# Altium footprint library TF_115.PcbLib: 1 footprints
Each footprint in its own frame and in the unit in brackets; x right, y up, seen from the top. Pads: shape width x height; smd on the part's side, far side on the other; paste and mask are expansions set on the pad; w line width, h text height; cw(c..) or ccw(c..) is an arc to the next point about the centre after c.
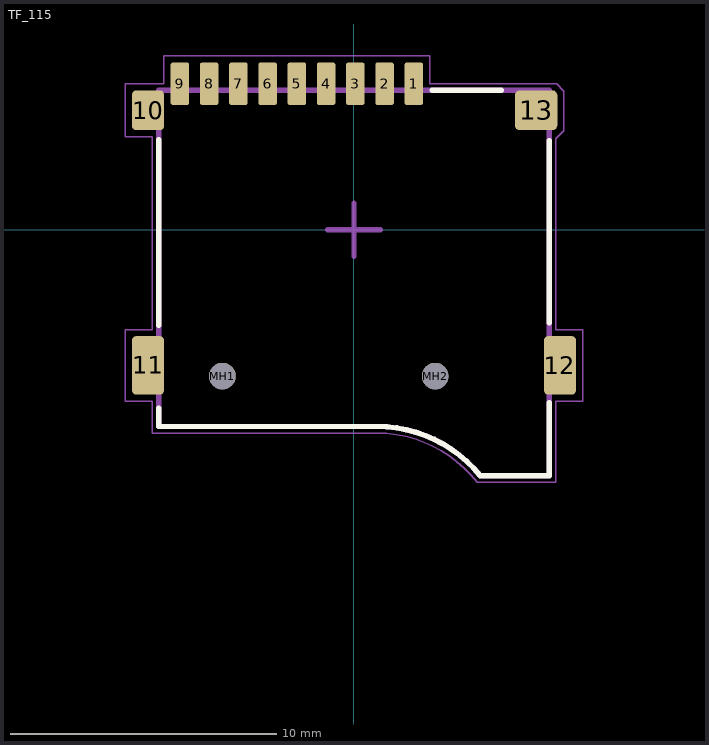
[diagram p0: the footprint, top view; thin cyan lines are the x and y axes]

## TF_115 [mm]
height 2
pads (15):
  rrect25% 0.7x1.6 smd mask+0.05: 1(2.25,5.5) 2(1.15,5.5) 3(0.05,5.5) 4(-1.05,5.5) 5(-2.15,5.5) 6(-3.25,5.5) 7(-4.35,5.5) 8(-5.45,5.5) 9(-6.55,5.5)
  rrect25% 1.2x1.5 smd mask+0.05: 10(-7.75,4.5)
  rrect25% 1.2x2.2 smd mask+0.05: 11(-7.75,-5.1) 12(7.75,-5.1)
  rrect25% 1.6x1.5 smd mask+0.05: 13(6.85,4.5)
  round 1 hole 1 unplated mask+0.05: MH1(-4.95,-5.5) MH2(3.05,-5.5)
Top Overlay:
  lines w0.2: -7.35,-6.7 -7.35,-7.397 0.864,-7.397 cw(c0.864,-12.397) 4.75,-9.25 7.35,-9.25 7.35,-6.5 ; -7.35,-3.6 -7.35,3.4 ; 2.95,5.25 5.55,5.25 ; 7.35,-3.5 7.35,3.35
Top Assembly:
  lines w0.2: -1,0 1,0 ; 0,-1 0,1 ; -7.35,-7.397 -7.35,5.25 7.35,5.25 7.35,-9.25 4.75,-9.25 ccw(c0.864,-12.397) 0.864,-7.397 -7.35,-7.397
Top Courtyard:
  lines w0.05: 0.864,-7.65 -7.6,-7.65 -7.6,-6.45 -8.6,-6.45 -8.6,-3.75 -7.6,-3.75 -7.6,3.5 -8.6,3.5 -8.6,5.5 -7.15,5.5 -7.15,6.55 2.85,6.55 2.85,5.5 7.625,5.5 7.9,5.225 7.9,3.725 7.6,3.425 7.6,-3.75 8.6,-3.75 8.6,-6.45 7.6,-6.45 7.6,-9.5 4.625,-9.5 ; 0.864,-7.647 cw(c0.864,-12.397) 4.629,-9.5
Top Designator:
  text ".Designator" at -7.618,-2.008 h1.52
3D body "TF_115.STEP": height 1.9, standoff -1.2, extent -8.35,-9.25 8.35,6.304